# EAGLE library part IM (library switches)
Dual Relay http://www.te.com/commerce/DocumentDelivery/DDEController?Action=srchrtrv&DocNm=108-98001&DocType=SS&DocLang=EN
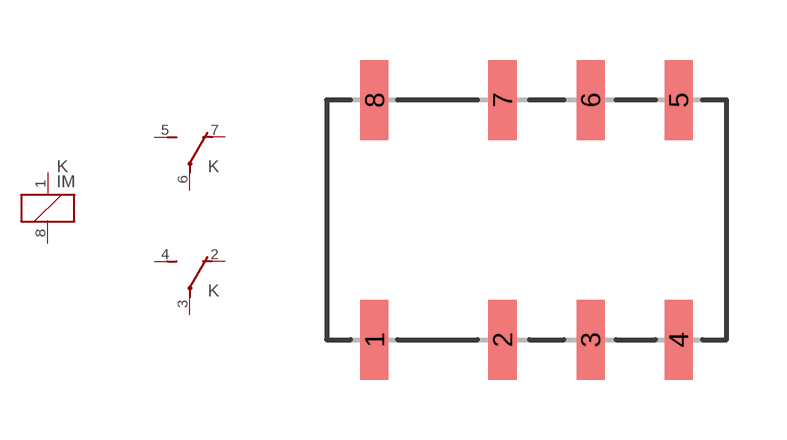
[diagram p0: symbol with the pads of IM-GULLWING; footprint IM-GULLWING]

Designator prefix K; gates 1=K 2=U 3=U

## IMG (MF: TE Connectivity; REVIEWED: NO; TESTED: NO), IM02DG (COIL_VOLTAGE: 4.5V; CURRENT: 5A; MF: TE Connectivity; MPN: 9-1462038-8; REVIEWED: NO; TESTED: NO; TYPE: MONOSTABLE), IM03DG (COIL_VOLTAGE: 5V; CURRENT: 5A; MF: TE Connectivity; MPN: 9-1462038-9; REVIEWED: NO; TESTED: NO; TYPE: MONOSTABLE)  [IM-GULLWING]
1  1:1  pas
2  3:O  pas
3  3:P  pas
4  3:S  pas
5  2:S  pas
6  2:P  pas
7  2:O  pas
8  1:2  pas

## Footprint IM-GULLWING (pad centres in mm)
Based on TE/AXICOM IM Relay datasheet Revision History Aug-30-2014 drawn by Michael Ferguson
smd 0.7 x 2: 1 -5.4,-3; 2 -2.2,-3; 3 0,-3; 4 2.2,-3; 5 2.2,3; 6 0,3; 7 -2.2,3; 8 -5.4,3